# Altium schematic symbol library Schlib1.SchLib: 7 symbols
Pins are listed as number, name and electrical type; pins without a type are passive.

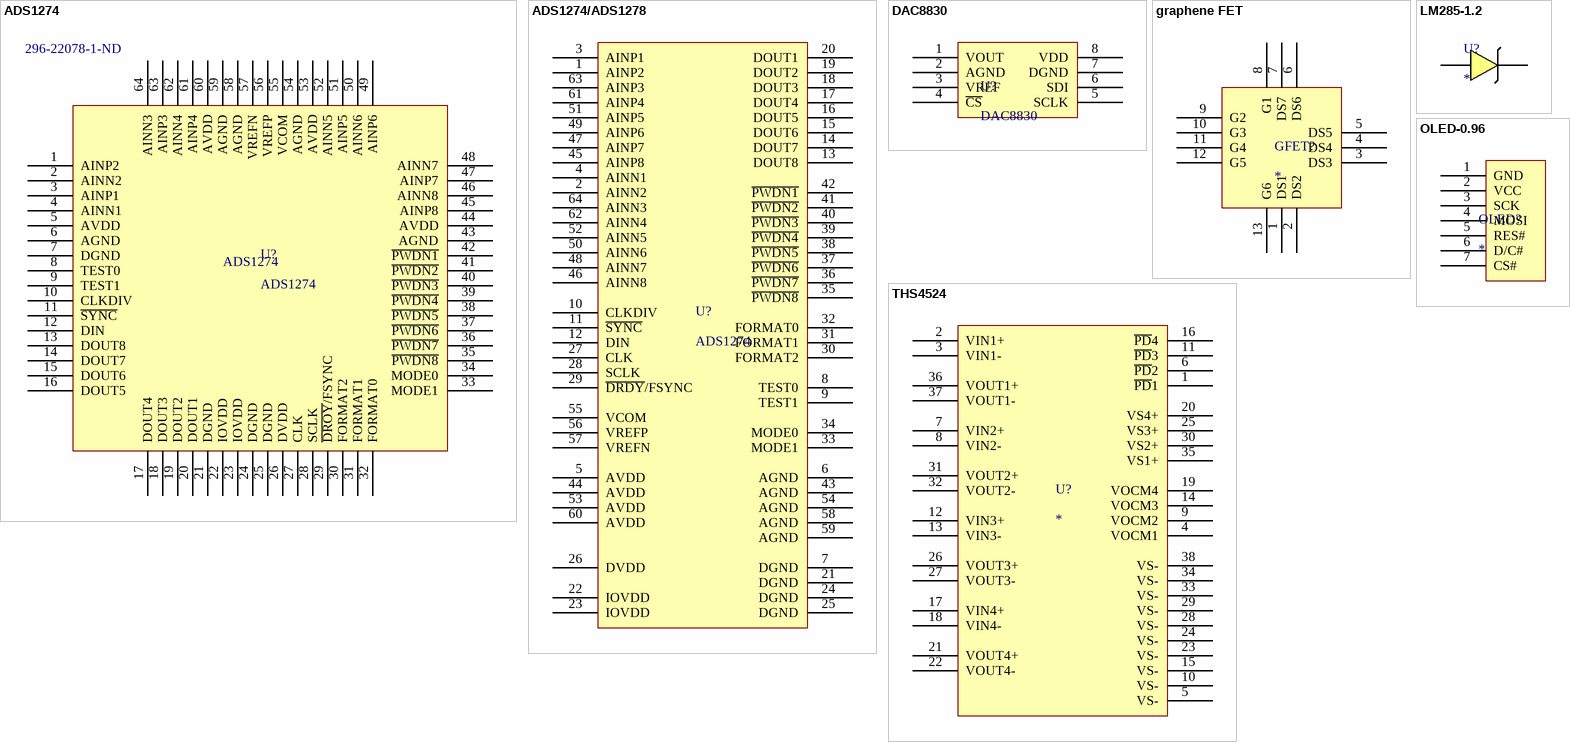
[diagram p0: symbols ADS1274 to THS4524]

## ADS1274
designator U?  Supplier Part Number 1: 296-22078-1-ND
Supplier 1: Digi-Key
footprint TQFP64-10*10 (10x10mm, 0.5mm(蒜米工坊）)
pins: 1 AINP2, 2 AINN2, 3 AINP1, 4 AINN1, 5 AVDD, 6 AGND, 7 DGND, 8 TEST0, 9 TEST1, 10 CLKDIV, 11 ~{SYNC}, 12 DIN, 13 DOUT8, 14 DOUT7, 15 DOUT6, 16 DOUT5, 17 DOUT4, 18 DOUT3, 19 DOUT2, 20 DOUT1, 21 DGND, 22 IOVDD, 23 IOVDD, 24 DGND, 25 DGND, 26 DVDD, 27 CLK, 28 SCLK, 29 ~{DROY}/FSYNC, 30 FORMAT2, 31 FORMAT1, 32 FORMAT0, 33 MODE1, 34 MODE0, 35 ~{PWDN8}, 36 ~{PWDN7}, 37 ~{PWDN6}, 38 ~{PWDN5}, 39 ~{PWDN4}, 40 ~{PWDN3}, 41 ~{PWDN2}, 42 ~{PWDN1}, 43 AGND, 44 AVDD, 45 AINP8, 46 AINN8, 47 AINP7, 48 AINN7, 49 AINP6, 50 AINN6, 51 AINP5, 52 AINN5, 53 AVDD, 54 AGND, 55 VCOM, 56 VREFP, 57 VREFN, 58 AGND, 59 AGND, 60 AVDD, 61 AINP4, 62 AINN4, 63 AINP3, 64 AINN3

## ADS1274/ADS1278
designator U?, comment ADS1274
footprint TQFP64-10*10 (10x10mm, 0.5mm(蒜米工坊）)
pins: 1 AINP2, 2 AINN2, 3 AINP1, 4 AINN1, 5 AVDD, 6 AGND, 7 DGND, 8 TEST0, 9 TEST1, 10 CLKDIV, 11 ~{SYNC}, 12 DIN, 13 DOUT8, 14 DOUT7, 15 DOUT6, 16 DOUT5, 17 DOUT4, 18 DOUT3, 19 DOUT2, 20 DOUT1, 21 DGND, 22 IOVDD, 23 IOVDD, 24 DGND, 25 DGND, 26 DVDD, 27 CLK, 28 SCLK, 29 ~{DRDY}/FSYNC, 30 FORMAT2, 31 FORMAT1, 32 FORMAT0, 33 MODE1, 34 MODE0, 35 ~{PWDN8}, 36 ~{PWDN7}, 37 ~{PWDN6}, 38 ~{PWDN5}, 39 ~{PWDN4}, 40 ~{PWDN3}, 41 ~{PWDN2}, 42 ~{PWDN1}, 43 AGND, 44 AVDD, 45 AINP8, 46 AINN8, 47 AINP7, 48 AINN7, 49 AINP6, 50 AINN6, 51 AINP5, 52 AINN5, 53 AVDD, 54 AGND, 55 VCOM, 56 VREFP, 57 VREFN, 58 AGND, 59 AGND, 60 AVDD, 61 AINP4, 62 AINN4, 63 AINP3, 64 AINN3

## DAC8830
designator U?
footprint SO-8M
pins: 1 VOUT, 2 AGND, 3 VREF, 4 ~{CS}, 5 SCLK, 6 SDI, 7 DGND, 8 VDD

## graphene FET
designator GFET?
footprint graphene FET
pins: 1 DS1, 2 DS2, 3 DS3, 4 DS4, 5 DS5, 6 DS6, 7 DS7, 8 G1, 9 G2, 10 G3, 11 G4, 12 G5, 13 G6

## LM285-1.2
designator U?
footprint SOP8_N (5*6*1.8mm（长宽高）)
pins: 4 ANODE, 8 CATHODE

## OLED-0.96
designator OLED?
footprint OLED
pins: 1 GND, 2 VCC, 3 SCK, 4 MOSI, 5 RES#, 6 D/C#, 7 CS#

## THS4524
designator U?
footprint TSSOP-38 - duplicate
pins: 1 ~{PD}1, 2 VIN1+, 3 VIN1-, 4 VOCM1, 5 VS-, 6 ~{PD}2, 7 VIN2+, 8 VIN2-, 9 VOCM2, 10 VS-, 11 ~{PD}3, 12 VIN3+, 13 VIN3-, 14 VOCM3, 15 VS-, 16 ~{PD}4, 17 VIN4+, 18 VIN4-, 19 VOCM4, 20 VS4+, 21 VOUT4+, 22 VOUT4-, 23 VS-, 24 VS-, 25 VS3+, 26 VOUT3+, 27 VOUT3-, 28 VS-, 29 VS-, 30 VS2+, 31 VOUT2+, 32 VOUT2-, 33 VS-, 34 VS-, 35 VS1+, 36 VOUT1+, 37 VOUT1-, 38 VS-